# Altium footprint library Antena.PcbLib: 10 footprints
Each footprint in its own frame and in the unit in brackets; x right, y up, seen from the top. Pads: shape width x height; smd on the part's side, far side on the other; paste and mask are expansions set on the pad; w line width, h text height; cw(c..) or ccw(c..) is an arc to the next point about the centre after c.
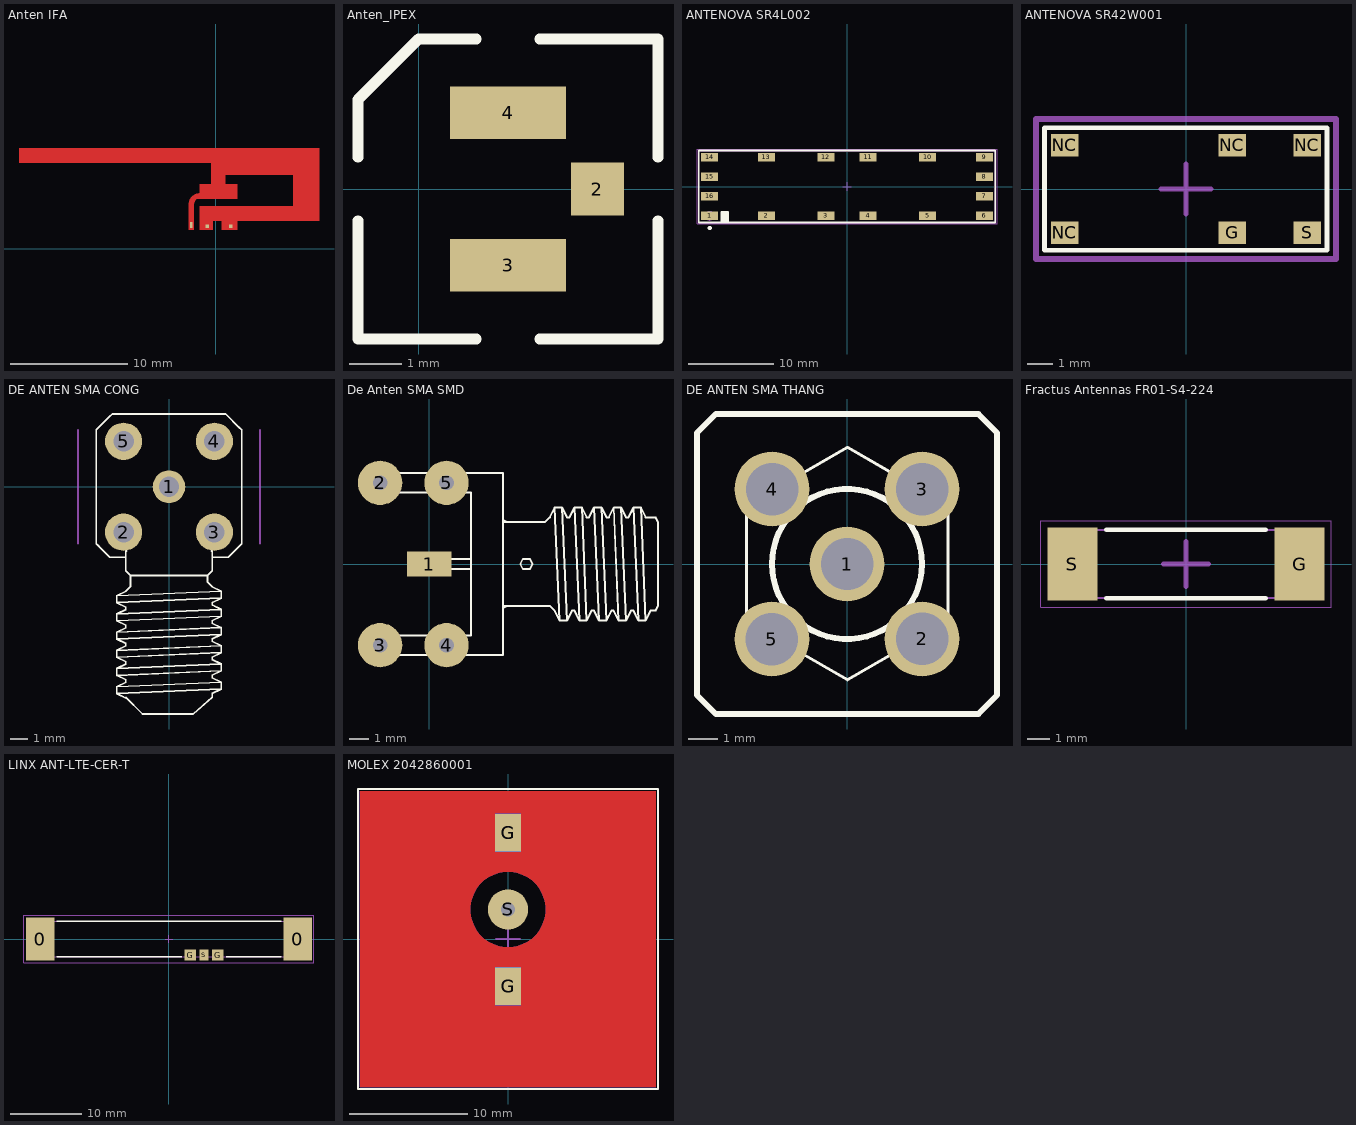
[diagram p0: the footprints below, top view; thin cyan lines are the x and y axes]

## Anten IFA [mm]
pads (3):
  rect 0.3x0.3 smd: 1(-0.737,1.93) 2(1.27,1.93)
  rect 0.2x0.5 smd: 3(-2.108,2.032)
Top Layer:
  region: -16.784,7.351 -16.784,8.561 8.796,8.561 8.796,2.391 1.816,2.391 1.816,1.651 0.521,1.651 0.521,2.391 -0.259,2.391 -0.259,1.651 -1.383,1.651 -1.383,3.643 6.596,3.643 6.596,6.313 0.796,6.313 0.796,5.498 1.811,5.498 1.811,4.294 -1.389,4.294 -1.482,4.285 -1.653,4.214 -1.785,4.082 -1.856,3.911 -1.865,3.818 -1.865,1.651 -2.325,1.651 -2.325,3.797 -2.325,3.89 -2.289,4.072 -2.218,4.243 -2.115,4.397 -1.983,4.528 -1.829,4.631 -1.658,4.702 -1.476,4.738 -1.383,4.738 -1.383,4.739 -1.383,5.513 -0.388,5.513 -0.388,7.351

## Anten_IPEX [mm]
pads (3):
  rect 1x1 smd: 2(3.4,0)
  rect 2.2x1 smd: 3(1.7,-1.45) 4(1.7,1.45)
Top Overlay:
  lines w0.2: -1.15,-0.6 -1.15,-2.85 1.1,-2.85 ; -1.15,0.6 -1.15,1.7 0,2.85 1.1,2.85 ; 2.3,-2.85 4.55,-2.85 4.55,-0.6 ; 2.3,2.85 4.55,2.85 4.55,0.6

## ANTENOVA SR4L002 [mm] "Antenna, 16-leads, Body 35x8.5x3.3mm,  IPC Medium Density"
height 3.3
pads (16):
  rect 2x1 smd: 1(-16.2,-3.45) 2(-9.5,-3.45) 3(-2.5,-3.45) 4(2.5,-3.45) 5(9.5,-3.45) 6(16.2,-3.45) 7(16.2,-1.15) 8(16.2,1.15) 9(16.2,3.45) 10(9.5,3.45) 11(2.5,3.45) 12(-2.5,3.45) 13(-9.5,3.45) 14(-16.2,3.45) 15(-16.2,1.15) 16(-16.2,-1.15)
Top Overlay:
  circle w0.25: c-16.2,-4.9 r0.125
  rectangle: -14.8,-4.2 -14,-3
  lines w0.2: -14.8,-4.2 -14.8,-3 -14,-3 -14,-4.2 ; -17.5,-4.25 -17.5,4.25 17.5,4.25 17.5,-4.25 -17.5,-4.25
Mechanical 13:
  circle w0.1: c-16.2,-3.45 r0.5
  lines w0.1: -17.5,-4.25 17.5,-4.25 17.5,4.25 -17.5,4.25 -17.5,-4.25
Mechanical 15:
  lines w0.05: -17.7,-4.4 -17.7,4.4 17.7,4.4 17.7,-4.4 -17.7,-4.4
  lines w0.1: -0.5,0 0.5,0 ; 0,-0.5 0,0.5
3D body "Antenova - SR4L002.step": height 3.45, standoff -0.05, extent -17.5,-4.25 17.5,4.25

## ANTENOVA SR42W001 [mm]
height 0.9
pads (6):
  rect 1.1x0.9 smd: G(1.85,-1.75) NC(-4.85,-1.75) NC(-4.85,1.75) NC(1.85,1.75) NC(4.85,1.75) S(4.85,-1.75)
Top Overlay:
  lines w0.2: -5.65,-2.45 5.65,-2.45 5.65,2.45 -5.65,2.45 -5.65,-1.75 -5.65,-2.45
Mechanical 15:
  lines w0.2: -1,0 1,0 ; 0,-1 0,1
  lines w0.254: -6,-2.8 -6,2.8 6,2.8 6,-2.8 -6,-2.8
3D body "Antenova SR42W001_Mutica.STEP": height 0.95, standoff 0, extent -5.65,-2.5 5.65,2.5

## DE ANTEN SMA CONG [mil]
pads (5):
  round 72 hole 45: 1(0,0)
  round 82 hole 45: 2(-100,-100) 3(100,-100) 4(100,100) 5(-100,100)
Top Overlay:
  lines w4: -155,-130 -160,-125 ; -95,-465 -115,-455 ; -95,-463.33 -58.33,-500 53.33,-500 95,-463.33 95,-455 115,-445 ; -95,-155 -130,-155 -160,-125 ; -93.33,-141.67 -95,-140 -95,-185 -85,-195 ; 93.33,-141.67 95,-140 95,-185 85,-195 ; 95,-155 130,-155 160,-125 160,80 ; 160,75 160,125 155,130 125,160 -125,160 -130,155 -160,125 -160,-125 ; -115,-455 115,-445 ; -115,-455 -115,-440 ; -115,-440 115,-430 ; -115,-440 -95,-430 -95,-425 -115,-415 ; -115,-415 115,-405 ; -115,-415 -115,-400 ; -115,-400 115,-390 ; -115,-400 -95,-390 -95,-385 -115,-375 ; -115,-375 115,-365 ; -115,-375 -115,-360 ; -115,-360 115,-350 ; -115,-360 -95,-350 -95,-345 -115,-335 ; -115,-335 115,-325 ; -115,-335 -115,-320 ; -115,-320 115,-310 ; -115,-320 -95,-310 -95,-305 -115,-295 ; -115,-295 115,-285 ; -115,-295 -115,-280 ; -115,-280 115,-270 ; -115,-280 -95,-270 -95,-265 -115,-255 ; -115,-255 115,-245 ; -115,-255 -115,-240 ; -115,-240 115,-230 ; -115,-240 -95,-230 -85,-220 -85,-210 -85,-200 -85,-195 ; -85,-195 85,-195 ; 85,-195 85,-200 85,-210 95,-220 115,-230 ; 115,-445 115,-430 ; 115,-430 95,-420 95,-415 115,-405 ; 115,-405 115,-390 ; 115,-390 95,-380 95,-375 115,-365 ; 115,-365 115,-350 ; 115,-350 95,-340 95,-335 115,-325 ; 115,-325 115,-310 ; 115,-310 95,-300 95,-295 115,-285 ; 115,-285 115,-270 ; 115,-270 95,-260 95,-255 115,-245 ; 115,-245 115,-230
Mechanical 1:
  lines w4: -200,-125 -200,125 ; 200,-125 200,125
3D body "SMA-J-P-X-RA-TH1.step": height 394.06, standoff -149.25, extent -136.5,-457.49 139.09,137

## De Anten SMA SMD [mil]
pads (5):
  rect 90x50 smd: 1(0,0)
  round 90 hole 30: 2(-100,165) 3(-100,-165) 4(35,-165) 5(35,165)
Top Overlay:
  lines w4: 10,-10 85,-10 ; 10,10 85,10 ; 150,-90 160,-85 ; 150,-85 200,-85 220,-85 225,-85 235,-85 245,-85 255,-95 265,-115 ; 150,85 200,85 220,85 225,85 235,85 245,95 255,115 ; 150,90 160,85 ; 255,115 270,115 ; 255,115 265,-115 ; 265,-115 280,-115 ; 270,115 280,95 285,95 ; 270,115 280,-115 ; 280,-115 290,-95 ; 285,95 295,115 ; 285,95 295,115 ; 290,-95 295,-95 ; 290,-95 295,-95 ; 295,-95 305,-115 ; 295,115 310,115 ; 295,115 305,-115 ; 305,-115 320,-115 ; 310,115 320,95 325,95 335,115 ; 310,115 320,-115 ; 320,-115 330,-95 335,-95 345,-115 ; 335,115 350,115 ; 335,115 345,-115 ; 345,-115 360,-115 ; 350,115 360,95 365,95 375,115 ; 350,115 360,-115 ; 360,-115 370,-95 375,-95 385,-115 ; 375,115 390,115 ; 375,115 385,-115 ; 385,-115 400,-115 ; 390,115 400,95 405,95 415,115 ; 390,115 400,-115 ; 400,-115 410,-95 415,-95 425,-115 ; 415,115 430,115 ; 415,115 425,-115 ; 425,-115 440,-115 ; 430,115 440,95 448.33,95 460,95 465,85 465,53.33 465,-58.33 465,-85 460,-95 450,-95 440,-115 ; 430,115 440,-115 ; -100,-185 -100,-145 85,-145 85,145 -100,145 -100,185 65,185 85,185 150,185 150,-185 -100,-185 ; 185,0 190,10 205,10 210,0 205,-10 190,-10 185,0
3D body "sma-endlaunch-wide.step": height 155.91, standoff -155.91, extent -103.24,-186 441.24,188.8

## DE ANTEN SMA THANG [mil]
pads (5):
  round 100 hole 70: 1(0,0) 2(100,-100) 3(100,100) 4(-100,100) 5(-100,-100)
Top Overlay:
  circle w8: c0,0 r100
  circle w8: c0,0 r25
  lines w4: -133.69,-76.91 -133.69,78.09 0.55,155.59 134.78,78.09 134.78,-76.91 0.55,-154.41 -133.69,-76.91
  lines w8: -200,-175 -175,-200 175,-200 200,-175 200,175 175,200 -175,200 -200,175 -200,150 -200,-175
3D body "SMA-J-P-X-ST-TH1.step": height 385.54, standoff -145.95, extent -138.3,-136.09 137.3,139.5

## Fractus Antennas FR01-S4-224 [mm]
height 2.6
pads (2):
  rect 2.2x3.2 smd: G(5,0) S(-5,0)
Top Overlay:
  lines w0.2: -3.5,-1.5 3.5,-1.5 ; -3.5,1.5 3.5,1.5
Mechanical 13:
  lines w0.1: -6,-1.5 -6,1.5 6,1.5 6,-1.5 -6,-1.5
Mechanical 15:
  lines w0.05: -6.4,-1.9 -6.4,1.9 6.4,1.9 6.4,-1.9 -6.4,-1.9
  lines w0.2: -1,0 1,0 ; 0,-1 0,1
3D body "Fractus FR01-S4-224.step": height 2.38, standoff -0.02, extent -6,-1.5 6,1.5

## LINX ANT-LTE-CER-T [mm] "Antenna, 5-leads, Body 37x5x5mm,  IPC Medium Density"
height 5
pads (5):
  rect 4x6 smd: 0(-18,0) 0(18,0)
  rect 1.65x1.5 smd: G(2.975,-2.25) G(6.825,-2.25)
  rect 1.2x1.5 smd: S(4.9,-2.25)
Top Overlay:
  lines w0.2: -15.7,-2.5 1.8,-2.5 ; -15.7,2.5 15.7,2.5 ; 8,-2.5 15.7,-2.5
Mechanical 13:
  lines w0.1: -18.5,-2.5 -18.5,2.5 18.5,2.5 18.5,-2.5 -18.5,-2.5
Mechanical 15:
  lines w0.05: -20.3,-3.3 20.3,-3.3 20.3,3.3 -20.3,3.3 -20.3,-3.3
  lines w0.1: -0.5,0 0.5,0 ; 0,-0.5 0,0.5
3D body "Linx - ANT-LTE-CER-T.step": height 5.16, standoff 0, extent -18.5,-2.5 18.5,2.5

## MOLEX 2042860001 [mm]
height 5.2
pads (5):
  rect 2.2x3.2 smd paste-10: G(0,-4) G(0,9)
  rect 2.2x3.2 smd far side paste-10: G(0,-4) G(0,9)
  round 3.4 hole 1.2: S(0,2.5)
Top Layer:
  region: -12.5,-12.5 -12.5,2.5 -3.2,2.5 -3.19,2.249 -3.112,1.753 -2.956,1.275 -2.728,0.828 -2.433,0.422 -2.078,0.067 -1.672,-0.228 -1.225,-0.456 -0.747,-0.612 -0.251,-0.69 0.251,-0.69 0.747,-0.612 1.225,-0.456 1.672,-0.228 2.078,0.067 2.433,0.422 2.728,0.828 2.956,1.275 3.112,1.753 3.19,2.249 3.2,2.5 12.5,2.5 12.5,-12.5
  region: -12.5,2.5 -12.5,12.5 12.5,12.5 12.5,2.5 3.2,2.5 3.19,2.751 3.112,3.247 2.956,3.725 2.728,4.172 2.433,4.578 2.078,4.933 1.672,5.228 1.225,5.456 0.747,5.612 0.251,5.69 -0.251,5.69 -0.747,5.612 -1.225,5.456 -1.672,5.228 -2.078,4.933 -2.433,4.578 -2.728,4.172 -2.956,3.725 -3.112,3.247 -3.19,2.751 -3.2,2.5
Bottom Layer:
  region: 12.5,2.5 12.5,12.5 -12.5,12.5 -12.5,2.5 -3.2,2.5 -3.19,2.751 -3.112,3.247 -2.956,3.725 -2.728,4.172 -2.433,4.578 -2.078,4.933 -1.672,5.228 -1.225,5.456 -0.747,5.612 -0.251,5.69 0.251,5.69 0.747,5.612 1.225,5.456 1.672,5.228 2.078,4.933 2.433,4.578 2.728,4.172 2.956,3.725 3.112,3.247 3.19,2.751 3.2,2.5
  region: 12.5,-12.5 12.5,2.5 3.2,2.5 3.19,2.249 3.112,1.753 2.956,1.275 2.728,0.828 2.433,0.422 2.078,0.067 1.672,-0.228 1.225,-0.456 0.747,-0.612 0.251,-0.69 -0.251,-0.69 -0.747,-0.612 -1.225,-0.456 -1.672,-0.228 -2.078,0.067 -2.433,0.422 -2.728,0.828 -2.956,1.275 -3.112,1.753 -3.19,2.249 -3.2,2.5 -12.5,2.5 -12.5,-12.5
Top Overlay:
  lines w0.2: -12.7,-12.7 -12.7,12.7 12.7,12.7 12.7,-12.7 -12.7,-12.7
Mechanical 13:
  lines w0.1: -12.5,-12.5 -12.5,12.5 12.5,12.5 12.5,-12.5 -12.5,-12.5
Mechanical 15:
  lines w0.05: -12.7,-12.7 12.7,-12.7 12.7,12.7 -12.7,12.7 -12.7,-12.7
  lines w0.2: -1,0 1,0 ; 0,-1 0,1
3D body "Molex - 2042860001.step": height 5.15, standoff -2.25, extent -12.5,-12.5 12.5,12.5